# Altium schematic symbol library CAP POL 680uF TH.Schlib: 1 symbol
Pins are listed as number, name and electrical type; pins without a type are passive.

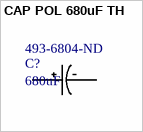
[diagram p0: symbol CAP POL 680uF TH]

## CAP POL 680uF TH
designator C?, comment 680uF  Supplier Part Number 1: 493-6804-ND
NICHICON   UHW1V681MPD6 ALUMINUM ELECTROLYTIC CAPACITOR, 680UF, 35V, 20%, RADIAL, FULL REEL; Dielectric Material: Aluminium; Manufacturer: Nichicon; Manufacturer Part Number: UHW1V681MPD6; RoHS: Yes; Number of Pins: 2; Capacitance: 680uF; Tolerance: 20%; Termination: Radial; Voltage: 35V; Supplier 1: Digi-Key
footprint RADIAL, CAN - THRU 10mm
footprint RADIAL, CAN - THRU 10mm - RIGHTANGLE
pins: NEG, POS